# Altium schematic symbol library altiumll.SchLib: 32 symbols
Pins are listed as number, name and electrical type; pins without a type are passive.

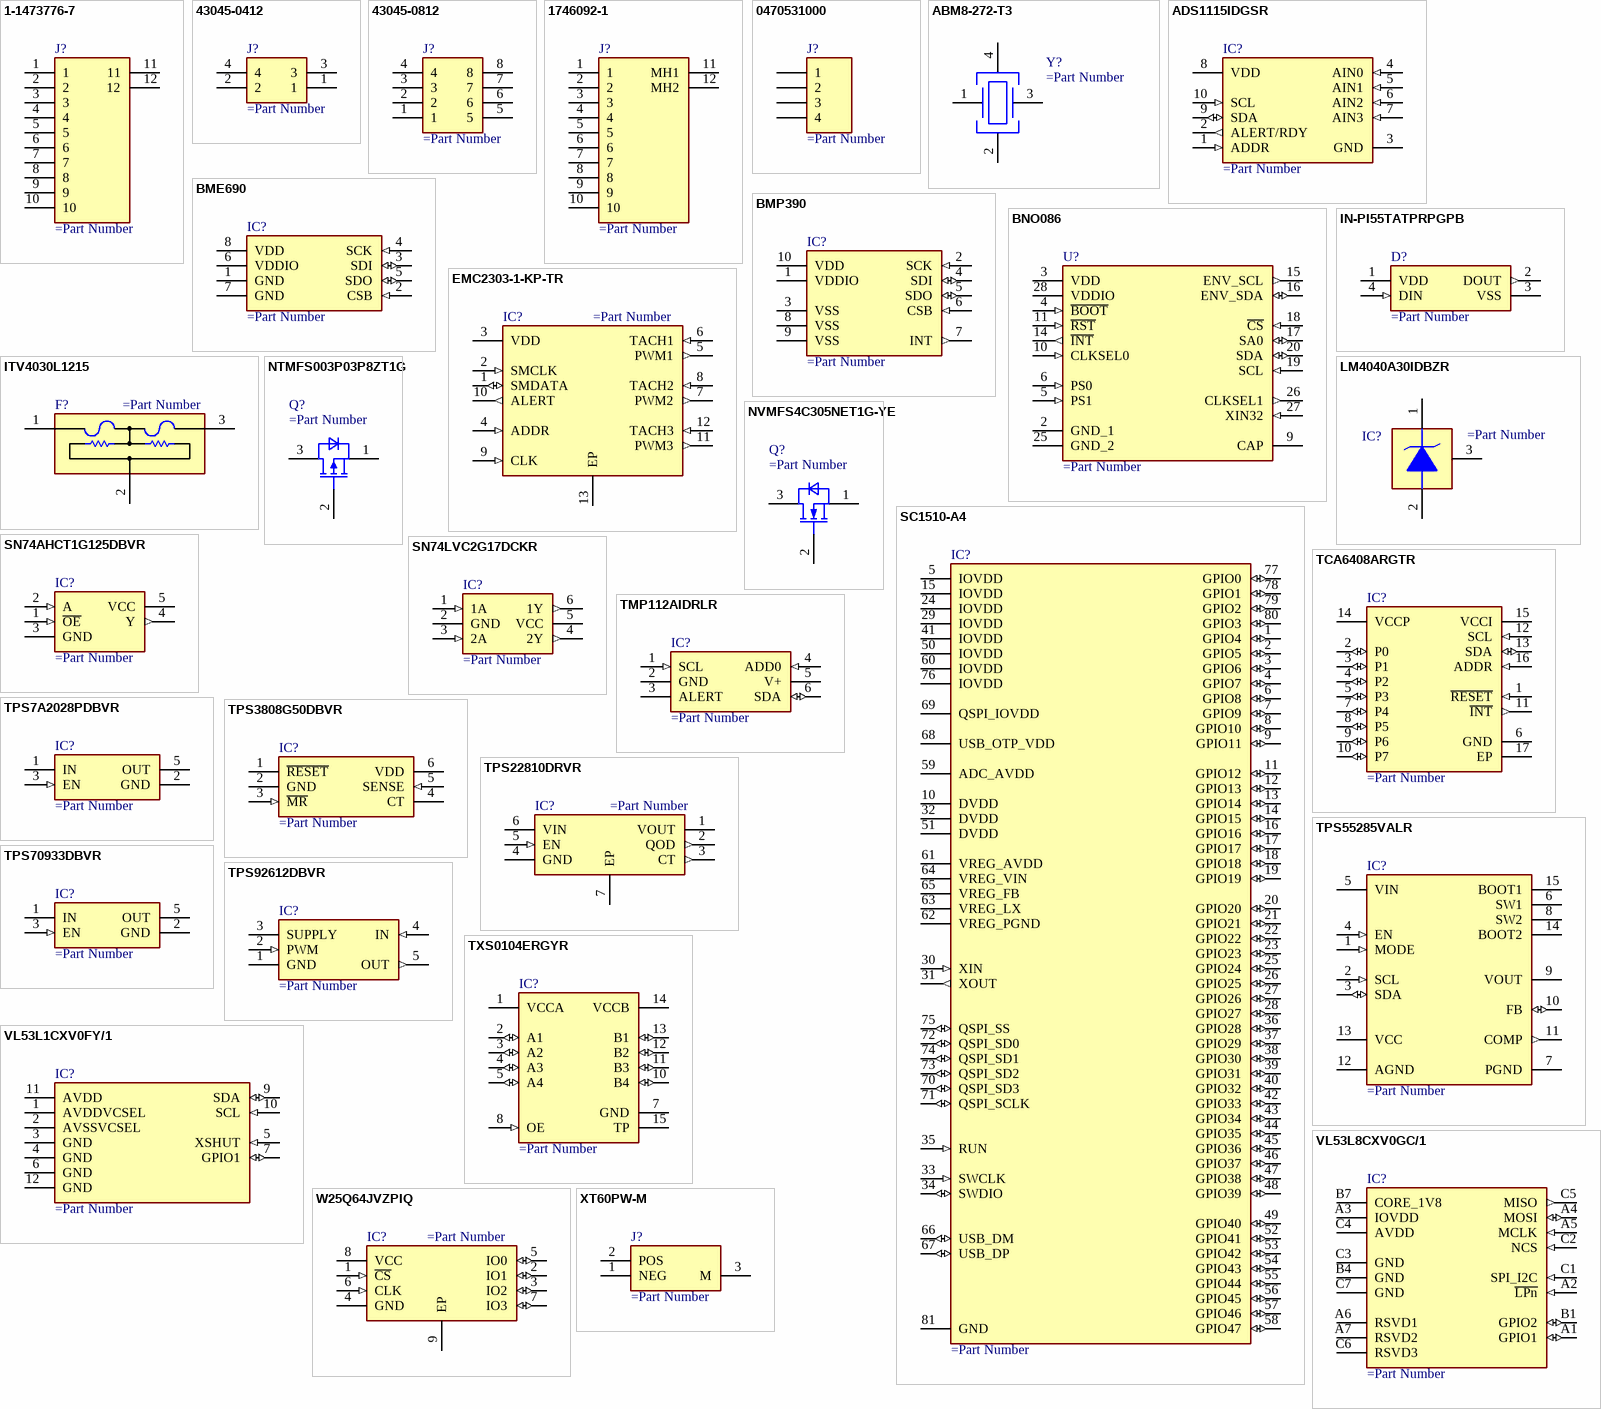
[diagram p0: symbols 1-1473776-7 to XT60PW-M]

## 1-1473776-7
designator J?
pins: 1, 2, 3, 4, 5, 6, 7, 8, 9, 10, 11, 12

## 43045-0412
designator J?
pins: 1, 2, 3, 4

## 43045-0812
designator J?
pins: 1, 2, 3, 4, 5, 6, 7, 8

## 1746092-1
designator J?
pins: 1, 2, 3, 4, 5, 6, 7, 8, 9, 10, 11 MH1, 12 MH2

## 0470531000
designator J?
pins: 1, 2, 3, 4

## ABM8-272-T3
designator Y?
pins: 1 CRYSTAL_1, 2 GND_1, 3 CRYSTAL_2, 4 GND_2

## ADS1115IDGSR
designator IC?
pins: 1 ADDR (in), 2 ALERT/RDY (out), 3 GND (power), 4 AIN0 (in), 5 AIN1 (in), 6 AIN2 (in), 7 AIN3 (in), 8 VDD (power), 9 SDA (io), 10 SCL (in)

## BME690
designator IC?
pins: 1 GND (power), 2 CSB (in), 3 SDI (io), 4 SCK (in), 5 SDO (io), 6 VDDIO (power), 7 GND (power), 8 VDD (power)

## BMP390
designator IC?
pins: 1 VDDIO (power), 2 SCK (in), 3 VSS (power), 4 SDI (io), 5 SDO (io), 6 CSB (in), 7 INT (out), 8 VSS (power), 9 VSS (power), 10 VDD (power)

## BNO086
designator U?
pins: 2 GND_1 (power), 3 VDD (power), 4 ~{BOOT} (in), 5 PS1 (in), 6 PS0 (in), 9 CAP (power), 10 CLKSEL0 (in), 11 ~{RST} (in), 14 ~{INT} (out), 15 ENV_SCL (out), 16 ENV_SDA (io), 17 SA0 (io), 18 ~{CS} (in), 19 SCL (in), 20 SDA (io), 25 GND_2 (power), 26 CLKSEL1 (out), 27 XIN32 (in), 28 VDDIO (power)

## EMC2303-1-KP-TR
designator IC?
pins: 1 SMDATA (io), 2 SMCLK (in), 3 VDD (power), 4 ADDR (in), 5 PWM1 (out), 6 TACH1 (in), 7 PWM2 (out), 8 TACH2 (in), 9 CLK (in), 10 ALERT (out), 11 PWM3 (out), 12 TACH3 (in), 13 EP (power)

## IN-PI55TATPRPGPB
designator D?
pins: 1 VDD (power), 2 DOUT (out), 3 VSS (power), 4 DIN (in)

## ITV4030L1215
designator F?
pins: 1 FUSE_1, 2 HEATER, 3 FUSE_2

## LM4040A30IDBZR
designator IC?
pins: 1 K "Cathode", 2 A "Anode", 3 * "Connect to anode or float"

## NTMFS003P03P8ZT1G
designator Q?
pins: 1 S, 2 G, 3 D

## NVMFS4C305NET1G-YE
designator Q?
pins: 1 SOURCE, 2 GATE, 3 DRAIN

## SC1510-A4
designator IC?
pins: 1 GPIO4 (io), 2 GPIO5 (io), 3 GPIO6 (io), 4 GPIO7 (io), 5 IOVDD (power), 6 GPIO8 (io), 7 GPIO9 (io), 8 GPIO10 (io), 9 GPIO11 (io), 10 DVDD (power), 11 GPIO12 (io), 12 GPIO13 (io), 13 GPIO14 (io), 14 GPIO15 (io), 15 IOVDD (power), 16 GPIO16 (io), 17 GPIO17 (io), 18 GPIO18 (io), 19 GPIO19 (io), 20 GPIO20 (io), 21 GPIO21 (io), 22 GPIO22 (io), 23 GPIO23 (io), 24 IOVDD (power), 25 GPIO24 (io), 26 GPIO25 (io), 27 GPIO26 (io), 28 GPIO27 (io), 29 IOVDD (power), 30 XIN (in), 31 XOUT (out), 32 DVDD (power), 33 SWCLK (in), 34 SWDIO (io), 35 RUN (in), 36 GPIO28 (io), 37 GPIO29 (io), 38 GPIO30 (io), 39 GPIO31 (io), 40 GPIO32 (io), 41 IOVDD (power), 42 GPIO33 (io), 43 GPIO34 (io), 44 GPIO35 (io), 45 GPIO36 (io), 46 GPIO37 (io), 47 GPIO38 (io), 48 GPIO39 (io), 49 GPIO40 (io), 50 IOVDD (power), 51 DVDD (power), 52 GPIO41 (io), 53 GPIO42 (io), 54 GPIO43 (io), 55 GPIO44 (io), 56 GPIO45 (io), 57 GPIO46 (io), 58 GPIO47 (io), 59 ADC_AVDD (power), 60 IOVDD (power), 61 VREG_AVDD (power), 62 VREG_PGND (power), 63 VREG_LX (power), 64 VREG_VIN (power), 65 VREG_FB (power), 66 USB_DM (io), 67 USB_DP (io), 68 USB_OTP_VDD (power), 69 QSPI_IOVDD (power), 70 QSPI_SD3 (io), 71 QSPI_SCLK (io), 72 QSPI_SD0 (io), 73 QSPI_SD2 (io), 74 QSPI_SD1 (io), 75 QSPI_SS (io), 76 IOVDD (power), 77 GPIO0 (io), 78 GPIO1 (io), 79 GPIO2 (io), 80 GPIO3 (io), 81 GND (power)

## SN74AHCT1G125DBVR
designator IC?
pins: 1 ~{OE} (in), 2 A (in), 3 GND (power), 4 Y (out), 5 VCC (power)

## SN74LVC2G17DCKR
designator IC?
pins: 1 1A (in), 2 GND (power), 3 2A (in), 4 2Y (out), 5 VCC (power), 6 1Y (out)

## TCA6408ARGTR
designator IC?
pins: 1 ~{RESET} (in), 2 P0 (io), 3 P1 (io), 4 P2 (io), 5 P3 (io), 6 GND (power), 7 P4 (io), 8 P5 (io), 9 P6 (io), 10 P7 (io), 11 ~{INT} (out), 12 SCL (in), 13 SDA (io), 14 VCCP (power), 15 VCCI (power), 16 ADDR (in), 17 EP

## TMP112AIDRLR
designator IC?
pins: 1 SCL (in), 2 GND (power), 3 ALERT (oc), 4 ADD0 (in), 5 V+ (power), 6 SDA (io)

## TPS7A2028PDBVR
designator IC?
pins: 1 IN (power), 2 GND (power), 3 EN (in), 5 OUT (power)

## TPS3808G50DBVR
designator IC?
pins: 1 ~{RESET} (oe), 2 GND (power), 3 ~{MR} (in), 4 CT, 5 SENSE (in), 6 VDD (power)

## TPS22810DRVR
designator IC?
pins: 1 VOUT (power), 2 QOD (out), 3 CT (out), 4 GND (power), 5 EN (in), 6 VIN (power), 7 EP

## TPS55285VALR
designator IC?
pins: 1 MODE (in), 2 SCL (in), 3 SDA (io), 4 EN (in), 5 VIN (power), 6 SW1 (power), 7 PGND (power), 8 SW2 (power), 9 VOUT (power), 10 FB (io), 11 COMP (out), 12 AGND (power), 13 VCC (power), 14 BOOT2 (power), 15 BOOT1 (power)

## TPS70933DBVR
designator IC?
pins: 1 IN (power), 2 GND (power), 3 EN (in), 5 OUT (power)

## TPS92612DBVR
designator IC?
pins: 1 GND (power), 2 PWM (in), 3 SUPPLY (power), 4 IN (in), 5 OUT (out)

## TXS0104ERGYR
designator IC?
pins: 1 VCCA (power), 2 A1 (io), 3 A2 (io), 4 A3 (io), 5 A4 (io), 7 GND (power), 8 OE (in), 10 B4 (io), 11 B3 (io), 12 B2 (io), 13 B1 (io), 14 VCCB (power), 15 TP

## VL53L1CXV0FY/1
designator IC?
pins: 1 AVDDVCSEL (power), 2 AVSSVCSEL (power), 3 GND (power), 4 GND (power), 5 XSHUT (in), 6 GND (power), 7 GPIO1 (io), 9 SDA (io), 10 SCL (in), 11 AVDD (power), 12 GND (power)

## VL53L8CXV0GC/1
designator IC?
pins: A1 GPIO1 (io), A2 ~{LPn} (in), A3 IOVDD (power), A4 MOSI (io), A5 MCLK (in), A6 RSVD1, A7 RSVD2, B1 GPIO2 (io), B4 GND (power), B7 CORE_1V8 (power), C1 SPI_I2C (in), C2 NCS (in), C3 GND (power), C4 AVDD (power), C5 MISO (out), C6 RSVD3, C7 GND (power)

## W25Q64JVZPIQ
designator IC?
pins: 1 ~{CS} (in), 2 IO1 (io), 3 IO2 (io), 4 GND (power), 5 IO0 (io), 6 CLK (in), 7 IO3 (io), 8 VCC (power), 9 EP

## XT60PW-M
designator J?
pins: 1 NEG, 2 POS, 3 M